# Altium footprint library capacitor_smd.PcbLib: 120 footprints (part 5 of 8)
Each footprint in its own frame and in the unit in brackets; x right, y up, seen from the top. Pads: shape width x height; smd on the part's side, far side on the other; paste and mask are expansions set on the pad; w line width, h text height; cw(c..) or ccw(c..) is an arc to the next point about the centre after c.
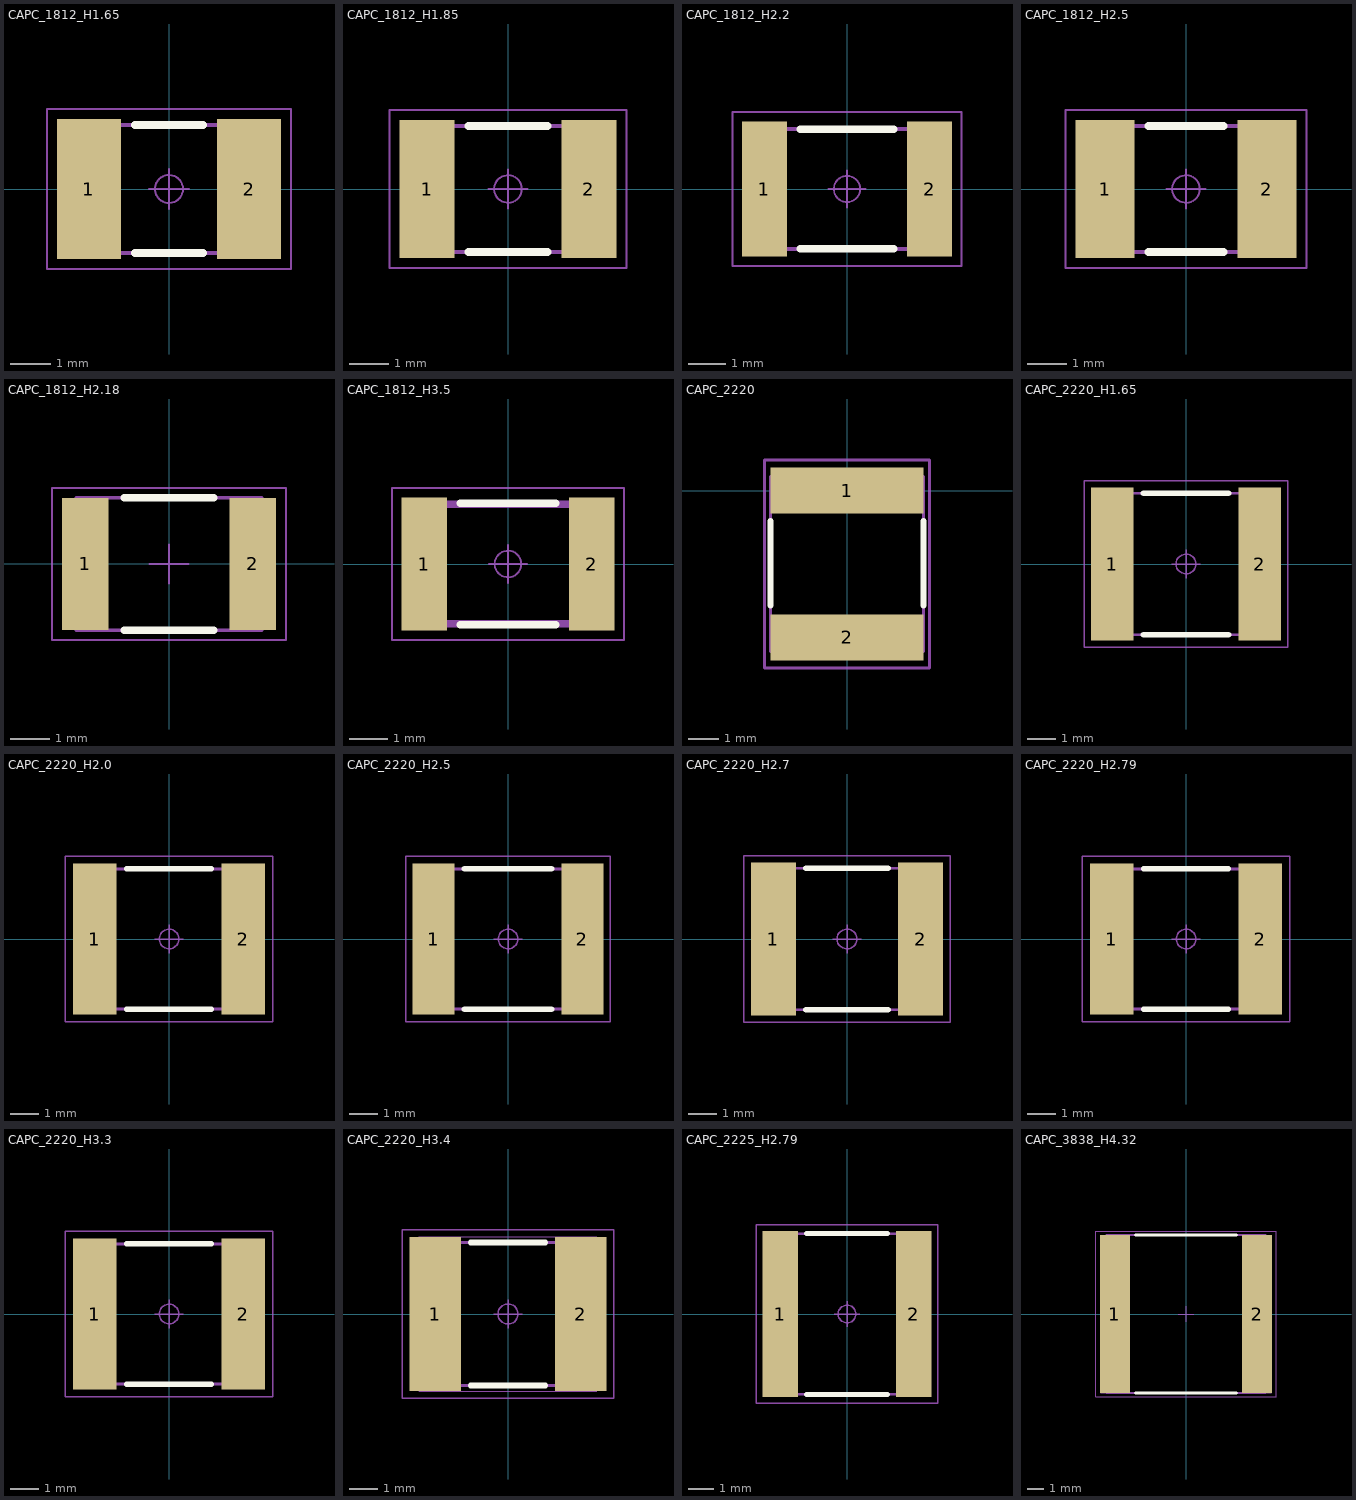
[diagram p4: the footprints below, top view; thin cyan lines are the x and y axes]

## CAPC_1812_H1.65 [mm] "Capacitor, Non-Polarized, Chip; 4.50mm L X 3.20mm W X 1.65mm H, IPC Medium Density"
height 1.65
pads (2):
  rect 1.6x3.5 smd: 1(-2,0) 2(2,0)
Top Overlay:
  lines w0.2: -0.85,-1.6 0.85,-1.6 ; -0.85,1.6 0.85,1.6
Mechanical 1:
  lines w0.1: -2.25,-1.6 -2.25,1.6 2.25,1.6 2.25,-1.6 -2.25,-1.6
Mechanical 15:
  circle w0.05: c0,0 r0.35
  lines w0.05: -0.5,0 0.5,0 ; 0,-0.5 0,0.5 ; -3.05,-2 -3.05,2 3.05,2 3.05,-2 -3.05,-2
3D body "CAPC4532X165N.stp": height 1.65, standoff 0, extent -2.25,-1.6 2.25,1.6

## CAPC_1812_H1.85 [mm] "Chip Capacitor, 2-Leads, Body 4.5x3.2mm, IPC Medium Density"
height 1.85
pads (2):
  rect 1.4x3.5 smd: 1(-2.05,0) 2(2.05,0)
Top Overlay:
  lines w0.2: -1,-1.6 1,-1.6 ; -1,1.6 1,1.6
Mechanical 1:
  lines w0.1: -2.25,-1.6 2.25,-1.6 2.25,1.6 -2.25,1.6 -2.25,-1.6
Mechanical 15:
  circle w0.05: c0,0 r0.35
  lines w0.05: -0.5,0 0.5,0 ; 0,-0.5 0,0.5 ; -3,-2 3,-2 3,2 -3,2 -3,-2
3D body "CAPC4532X185N.stp": height 1.85, standoff 0, extent -2.25,-1.6 2.25,1.6

## CAPC_1812_H2.2 [mm] "Capacitor, Non-Polarized, Chip; 4.50mm L X 3.20mm W X 2.20mm H, IPC Medium Density"
height 2.2
pads (2):
  rect 1.2x3.6 smd: 1(-2.2,0) 2(2.2,0)
Top Overlay:
  lines w0.2: -1.25,-1.6 1.25,-1.6 ; -1.25,1.6 1.25,1.6
Mechanical 1:
  lines w0.1: -2.25,-1.6 -2.25,1.6 2.25,1.6 2.25,-1.6 -2.25,-1.6
Mechanical 15:
  circle w0.05: c0,0 r0.35
  lines w0.05: -0.5,0 0.5,0 ; 0,-0.5 0,0.5 ; -3.05,-2.05 -3.05,2.05 3.05,2.05 3.05,-2.05 -3.05,-2.05
3D body "CAPC4532X220N.stp": height 2.2, standoff 0, extent -2.45,-1.8 2.45,1.8

## CAPC_1812_H2.5 [mm] "Chip Capacitor, 2-Leads, Body 4.5x3.2mm, IPC Medium Density"
height 2.5
pads (2):
  rect 1.5x3.5 smd: 1(-2.05,0) 2(2.05,0)
Top Overlay:
  lines w0.2: -0.95,-1.6 0.95,-1.6 ; -0.95,1.6 0.95,1.6
Mechanical 1:
  lines w0.1: -2.25,-1.6 2.25,-1.6 2.25,1.6 -2.25,1.6 -2.25,-1.6
Mechanical 15:
  circle w0.05: c0,0 r0.35
  lines w0.05: -0.5,0 0.5,0 ; 0,-0.5 0,0.5 ; -3.05,-2 3.05,-2 3.05,2 -3.05,2 -3.05,-2
3D body "CAPC4532X250N.stp": height 2.5, standoff 0, extent -2.375,-1.7 2.375,1.7

## CAPC_1812_H2.18 [mm] "Chip Capacitor, 2-Leads, Body 4.5x3.2mm, IPC Medium Density"
height 2.18
pads (2):
  rect 1.2x3.4 smd: 1(-2.15,0) 2(2.15,0)
Top Overlay:
  lines w0.2: -1.15,-1.7 1.15,-1.7 ; -1.15,1.7 1.15,1.7
Mechanical 1:
  lines w0.1: -2.375,-1.7 2.375,-1.7 2.375,1.7 -2.375,1.7 -2.375,-1.7
Mechanical 15:
  lines w0.05: -0.5,0 0.5,0 ; 0,-0.5 0,0.5 ; -3,-1.95 3,-1.95 3,1.95 -3,1.95 -3,-1.95
3D body "CAPC4532X218N.stp": height 2.18, standoff 0, extent -2.375,-1.7 2.375,1.7

## CAPC_1812_H3.5 [mm] "Chip Capacitor, 2-Leads, Body 4.5x3.2mm, IPC Medium Density"
height 3.5
pads (2):
  rect 1.2x3.5 smd: 1(-2.2,0) 2(2.2,0)
Top Overlay:
  lines w0.2: -1.25,-1.6 1.25,-1.6 ; -1.25,1.6 1.25,1.6
Mechanical 1:
  lines w0.2: -2.25,-1.575 -2.25,1.575 2.25,1.575 2.25,-1.575 -2.25,-1.575
Mechanical 15:
  circle w0.05: c0,0 r0.35
  lines w0.05: -0.5,0 0.5,0 ; 0,-0.5 0,0.5 ; -3.05,-2 -3.05,2 3.05,2 3.05,-2 -3.05,-2
3D body "CAPC4532X350N.stp": height 3.5, standoff 0, extent -2.45,-1.8 2.45,1.8

## CAPC_2220 [mm]
pads (2):
  rect 5x1.5 smd: 1(0,0) 2(0,-4.8)
Top Overlay:
  lines w0.2: -2.5,-3.75 -2.5,-1 ; 2.5,-3.75 2.5,-1
Mechanical 1:
  lines w0.1: -2.5,-5.25 -2.5,0.45 2.5,0.45 2.5,-5.25 -2.5,-5.25
Mechanical 15:
  lines w0.1: -2.7,-5.8 2.7,-5.8 2.7,1 -2,1 -2.7,1 -2.7,-5.8
3D body "User Library-CAPC5750X23.STEP": height 2.3, standoff 0, extent -2.5,-5.25 2.5,0.45

## CAPC_2220_H1.65 [mm] "Chip Capacitor, 2-Leads,Body 5.6x5mm, IPC Medium Density"
height 1.65
pads (2):
  rect 1.5x5.4 smd: 1(-2.6,0) 2(2.6,0)
Top Overlay:
  lines w0.2: -1.5,-2.5 1.5,-2.5 ; -1.5,2.5 1.5,2.5
Mechanical 1:
  lines w0.1: -2.8,-2.5 -2.8,2.5 2.8,2.5 2.8,-2.5 -2.8,-2.5
Mechanical 15:
  circle w0.05: c0,0 r0.35
  lines w0.05: -0.5,0 0.5,0 ; 0,-0.5 0,0.5 ; -3.6,-2.95 -3.6,2.95 3.6,2.95 3.6,-2.95 -3.6,-2.95
3D body "CAPC5650X165N.stp": height 1.65, standoff 0, extent -3,-2.7 3,2.7

## CAPC_2220_H2.0 [mm] "Chip Capacitor, 2-Leads, Body 5.7x5.0mm, IPC Medium Density"
height 2
pads (2):
  rect 1.55x5.4 smd: 1(-2.65,0) 2(2.65,0)
Top Overlay:
  lines w0.2: -1.5,-2.5 1.5,-2.5 ; -1.5,2.5 1.5,2.5
Mechanical 1:
  lines w0.1: -2.85,-2.5 -2.85,2.5 2.85,2.5 2.85,-2.5 -2.85,-2.5
Mechanical 15:
  circle w0.05: c0,0 r0.35
  lines w0.05: -0.5,0 0.5,0 ; 0,-0.5 0,0.5 ; -3.7,-2.95 -3.7,2.95 3.7,2.95 3.7,-2.95 -3.7,-2.95
3D body "CAPC5750X200N.stp": height 2, standoff 0, extent -3.05,-2.7 3.05,2.7

## CAPC_2220_H2.5 [mm] "Chip Capacitor, 2-Leads, Body 5.7x5.0mm, IPC Medium Density"
height 2.5
pads (2):
  rect 1.5x5.4 smd: 1(-2.65,0) 2(2.65,0)
Top Overlay:
  lines w0.2: -1.55,-2.5 1.55,-2.5 ; -1.55,2.5 1.55,2.5
Mechanical 1:
  lines w0.1: -2.85,-2.5 2.85,-2.5 2.85,2.5 -2.85,2.5 -2.85,-2.5
Mechanical 15:
  circle w0.05: c0,0 r0.35
  lines w0.05: -0.5,0 0.5,0 ; 0,-0.5 0,0.5 ; -3.65,-2.95 3.65,-2.95 3.65,2.95 -3.65,2.95 -3.65,-2.95
3D body "CAPC5750X250N.stp": height 2.5, standoff 0, extent -2.85,-2.5 2.85,2.5

## CAPC_2220_H2.7 [mm] "Chip Capacitor, 2-Leads, Body 5.7x5.0mm, IPC Medium Density"
height 2.7
pads (2):
  rect 1.6x5.4 smd: 1(-2.6,0) 2(2.6,0)
Top Overlay:
  lines w0.2: -1.45,-2.5 1.45,-2.5 ; -1.45,2.5 1.45,2.5
Mechanical 1:
  lines w0.1: -2.85,-2.5 -2.85,2.5 2.85,2.5 2.85,-2.5 -2.85,-2.5
Mechanical 15:
  circle w0.05: c0,0 r0.35
  lines w0.05: -0.5,0 0.5,0 ; 0,-0.5 0,0.5 ; -3.65,-2.95 -3.65,2.95 3.65,2.95 3.65,-2.95 -3.65,-2.95
3D body "CAPC5750X270N.stp": height 2.7, standoff 0, extent -2.85,-2.5 2.85,2.5

## CAPC_2220_H2.79 [mm] "Chip Capacitor, 2-Leads, Body 5.7x5.0mm, IPC Medium Density"
height 2.79
pads (2):
  rect 1.55x5.4 smd: 1(-2.65,0) 2(2.65,0)
Top Overlay:
  lines w0.2: -1.5,-2.5 1.5,-2.5 ; -1.5,2.5 1.5,2.5
Mechanical 1:
  lines w0.1: -2.85,-2.5 2.85,-2.5 2.85,2.5 -2.85,2.5 -2.85,-2.5
Mechanical 15:
  circle w0.05: c0,0 r0.35
  lines w0.05: -0.5,0 0.5,0 ; 0,-0.5 0,0.5 ; -3.7,-2.95 3.7,-2.95 3.7,2.95 -3.7,2.95 -3.7,-2.95
3D body "CAPC5750X279N.stp": height 2.79, standoff 0, extent -3.05,-2.7 3.05,2.7

## CAPC_2220_H3.3 [mm] "Chip Capacitor, 2-Leads, Body 5.7x5.0mm, IPC Medium Density"
height 3.3
pads (2):
  rect 1.55x5.4 smd: 1(-2.65,0) 2(2.65,0)
Top Overlay:
  lines w0.2: -1.5,-2.5 1.5,-2.5 ; -1.5,2.5 1.5,2.5
Mechanical 1:
  lines w0.1: -2.85,-2.5 2.85,-2.5 2.85,2.5 -2.85,2.5 -2.85,-2.5
Mechanical 15:
  circle w0.05: c0,0 r0.35
  lines w0.05: -0.5,0 0.5,0 ; 0,-0.5 0,0.5 ; -3.7,-2.95 3.7,-2.95 3.7,2.95 -3.7,2.95 -3.7,-2.95
3D body "CAPC5750X330N.stp": height 3.3, standoff 0, extent -3.05,-2.7 3.05,2.7

## CAPC_2220_H3.4 [mm] "Chip Capacitor, 2-Leads, Body 5.7x5.0mm, IPC Medium Density"
height 3.4
pads (2):
  rect 1.8x5.4 smd: 1(-2.55,0) 2(2.55,0)
Top Overlay:
  lines w0.2: -1.3,-2.5 1.3,-2.5 ; -1.3,2.5 1.3,2.5
Mechanical 1:
  lines w0.1: -2.85,-2.5 -2.85,2.5 2.85,2.5 2.85,-2.5 -2.85,-2.5
Mechanical 8:
  lines w0.001: -3.1,-2.7 -3.1,2.7 3.1,2.7 3.1,-2.7 -3.1,-2.7
Mechanical 15:
  circle w0.05: c0,0 r0.35
  lines w0.05: -0.5,0 0.5,0 ; 0,-0.5 0,0.5 ; -3.7,-2.95 -3.7,2.95 3.7,2.95 3.7,-2.95 -3.7,-2.95
3D body "CAPC5750X340N.stp": height 3.4, standoff 0, extent -3.05,-2.7 3.05,2.7

## CAPC_2225_H2.79 [mm] "Capacitor, Non-Polarized, Chip; 5.72mm L X 6.35mm W X 2.794mm H, IPC Medium Density"
height 2.79
pads (2):
  rect 1.4x6.6 smd: 1(-2.65,0) 2(2.65,0)
Top Overlay:
  lines w0.2: -1.6,-3.2 1.6,-3.2 ; -1.6,3.2 1.6,3.2
Mechanical 1:
  lines w0.1: -2.86,-3.175 -2.86,3.175 2.86,3.175 2.86,-3.175 -2.86,-3.175
Mechanical 15:
  circle w0.05: c0,0 r0.35
  lines w0.05: -0.5,0 0.5,0 ; 0,-0.5 0,0.5 ; -3.6,-3.55 -3.6,3.55 3.6,3.55 3.6,-3.55 -3.6,-3.55
3D body "CAPC5764X279N.stp": height 2.79, standoff 0, extent -2.985,-3.175 2.985,3.175

## CAPC_3838_H4.32 [mm] "Capacitor, Non-Polarized, Chip; 10.03mm L X 9.9mm W X 4.32mm H"
height 4.32
pads (2):
  rect 1.9x9.9 smd: 1(-4.45,0) 2(4.45,0)
Top Overlay:
  lines w0.2: -3.15,-4.95 3.15,-4.95 ; -3.15,4.95 3.15,4.95
Mechanical 1:
  lines w0.1: -5,-4.95 5,-4.95 5,4.95 -5,4.95 -5,-4.95
Mechanical 8:
  lines w0.05: -5,0 -4.5,0 ; -4.5,-0.5 -4.5,0 ; -4.5,0.5 -4.5,0 ; -4,0 -4.5,0 ; 4,0 4.5,0 ; 4.5,-0.5 4.5,0 ; 4.5,0.5 4.5,0 ; 5,0 4.5,0 ; -5.35,-4.95 -5.35,4.95 -3.65,4.95 -3.65,-4.95 -5.35,-4.95 ; 3.65,-4.95 5.35,-4.95 5.35,4.95 3.65,4.95 3.65,-4.95
Mechanical 15:
  lines w0.05: -0.5,0 0,0 ; 0,-0.5 0,0 ; 0,0.5 0,0 ; 0.5,0 0,0 ; -5.65,-5.2 -5.65,5.2 5.65,5.2 5.65,-5.2 -5.65,-5.2
3D body "CAPC9797X432N.stp": height 4.32, standoff 0, extent -5,-4.95 5,4.95